# Altium schematic symbol library Schlib1.SchLib: 1 symbol
Pins are listed as number, name and electrical type; pins without a type are passive.

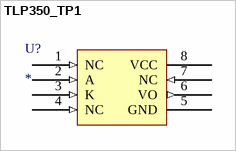
[diagram p0: symbol TLP350_TP1]

## TLP350_TP1
designator U?
footprint SOP254P1000X425-8N (SOP, 8-Leads, Body 9.66x6.40mm, Pitch 2.54mm, IPC Medium Density)
pins: 1 NC (in), 2 A (in), 3 K (in), 4 NC (in), 5 GND (power), 6 VO (out), 7 NC (in), 8 VCC (power)